# Altium schematic symbol library TRANS_EE16.SchLib: 1 symbol
Pins are listed as number, name and electrical type; pins without a type are passive.

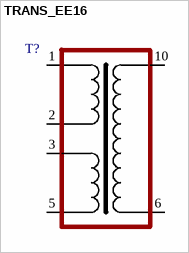
[diagram p0: symbol TRANS_EE16]

## TRANS_EE16
designator T?
footprint TRANS_EE16
pins: 1, 2, 3, 5, 6, 10